# Altium schematic symbol library SB.SchLib: 1 symbol
Pins are listed as number, name and electrical type; pins without a type are passive.

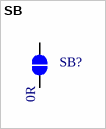
[diagram p0: symbol SB]

## SB
designator SB?, comment 0R
Manufacturer: Panasonic; Part Number: ERA3AEB102V
footprint SB0603 (Chip Resistor, 2-Leads, Body 1.65x0.95mm, IPC Medium Density)
pins: 1, 2
1 alternate drawing of the same symbol